# Altium footprint library TPS56A37RPAR.PcbLib: 1 footprints
Each footprint in its own frame and in the unit in brackets; x right, y up, seen from the top. Pads: shape width x height; smd on the part's side, far side on the other; paste and mask are expansions set on the pad; w line width, h text height; cw(c..) or ccw(c..) is an arc to the next point about the centre after c.
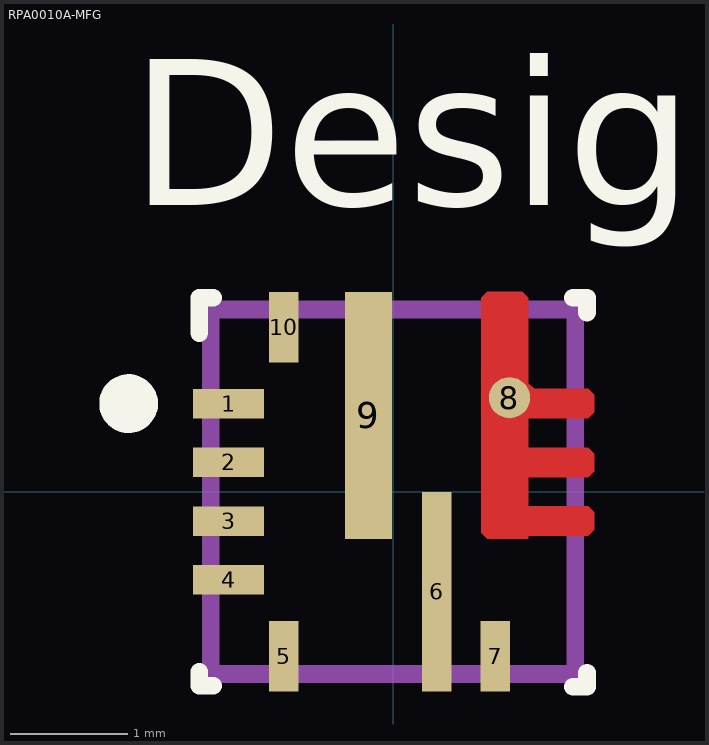
[diagram p0: the footprint, top view; thin cyan lines are the x and y axes]

## RPA0010A-MFG [mm]
pads (10):
  rect 0.6x0.25 smd paste+0 mask+0: 1(-1.4,0.75) 2(-1.4,0.25) 3(-1.4,-0.25) 4(-1.4,-0.75)
  rect 0.25x0.6 smd paste+0 mask+0: 5(-0.93,-1.4) 7(0.87,-1.4) 10(-0.93,1.4)
  rect 0.25x1.7 smd paste-0.837 mask+0: 6(0.37,-0.85)
  round 0.35 smd paste+0 mask+0: 8(0.99,0.8)
  rect 0.4x2.1 smd paste-1.037 mask+0: 9(-0.21,0.65)
Top Layer:
  region: 1.1,1.7 0.8,1.7 0.75,1.65 0.75,-0.35 0.8,-0.4 1.15,-0.4 1.15,-0.375 1.66,-0.375 1.71,-0.325 1.71,-0.175 1.66,-0.125 1.15,-0.125 1.15,0.125 1.66,0.125 1.71,0.175 1.71,0.325 1.66,0.375 1.15,0.375 1.15,0.625 1.66,0.625 1.71,0.675 1.71,0.825 1.66,0.875 1.2,0.875 1.15,0.925 1.15,1.65
Top Overlay:
  circle w0.25: c-2.25,0.75 r0.125
  lines w0.15: -1.65,-1.53 -1.65,-1.65 -1.53,-1.65 ; -1.65,1.35 -1.65,1.65 -1.53,1.65 ; 1.53,-1.66 1.65,-1.66 1.65,-1.54 ; 1.53,1.65 1.65,1.65 ; 1.65,1.525 1.65,1.645
  text "Designator8" at -2.235,2.438 h1.27
  text ".Designator" at -3.492,-0.635 h1.27
Top Paste:
  region: 0.295,-0.005 0.445,-0.005 0.495,-0.055 0.495,-0.705 0.445,-0.755 0.295,-0.755 0.245,-0.705 0.245,-0.055
  region: 0.295,-1.705 0.245,-1.655 0.245,-1.005 0.295,-0.955 0.445,-0.955 0.495,-1.005 0.495,-1.655 0.445,-1.705
  region: -0.36,-0.395 -0.41,-0.345 -0.41,0.505 -0.36,0.555 -0.06,0.555 -0.01,0.505 -0.01,-0.345 -0.06,-0.395
  region: -0.41,1.655 -0.36,1.705 -0.06,1.705 -0.01,1.655 -0.01,0.805 -0.06,0.755 -0.36,0.755 -0.41,0.805
  region: 1.1,1.7 0.8,1.7 0.75,1.65 0.75,-0.35 0.8,-0.4 1.15,-0.4 1.15,-0.375 1.66,-0.375 1.71,-0.325 1.71,-0.175 1.66,-0.125 1.15,-0.125 1.15,0.125 1.66,0.125 1.71,0.175 1.71,0.325 1.66,0.375 1.15,0.375 1.15,0.625 1.66,0.625 1.71,0.675 1.71,0.825 1.66,0.875 1.2,0.875 1.15,0.925 1.15,1.65
Top Solder:
  region: 1.1,1.7 0.8,1.7 0.75,1.65 0.75,-0.35 0.8,-0.4 1.15,-0.4 1.15,-0.375 1.66,-0.375 1.71,-0.325 1.71,-0.175 1.66,-0.125 1.15,-0.125 1.15,0.125 1.66,0.125 1.71,0.175 1.71,0.325 1.66,0.375 1.15,0.375 1.15,0.625 1.66,0.625 1.71,0.675 1.71,0.825 1.66,0.875 1.2,0.875 1.15,0.925 1.15,1.65
Mechanical 13:
  lines w0.15: -1.55,-1.55 1.55,-1.55 1.55,1.55 -1.55,1.55 -1.55,-1.55
  text ".Designator" at -3.492,-0.635 h1.27